# Altium footprint library FlyAndDive.PcbLib: 6 footprints
Each footprint in its own frame and in the unit in brackets; x right, y up, seen from the top. Pads: shape width x height; smd on the part's side, far side on the other; paste and mask are expansions set on the pad; w line width, h text height; cw(c..) or ccw(c..) is an arc to the next point about the centre after c.
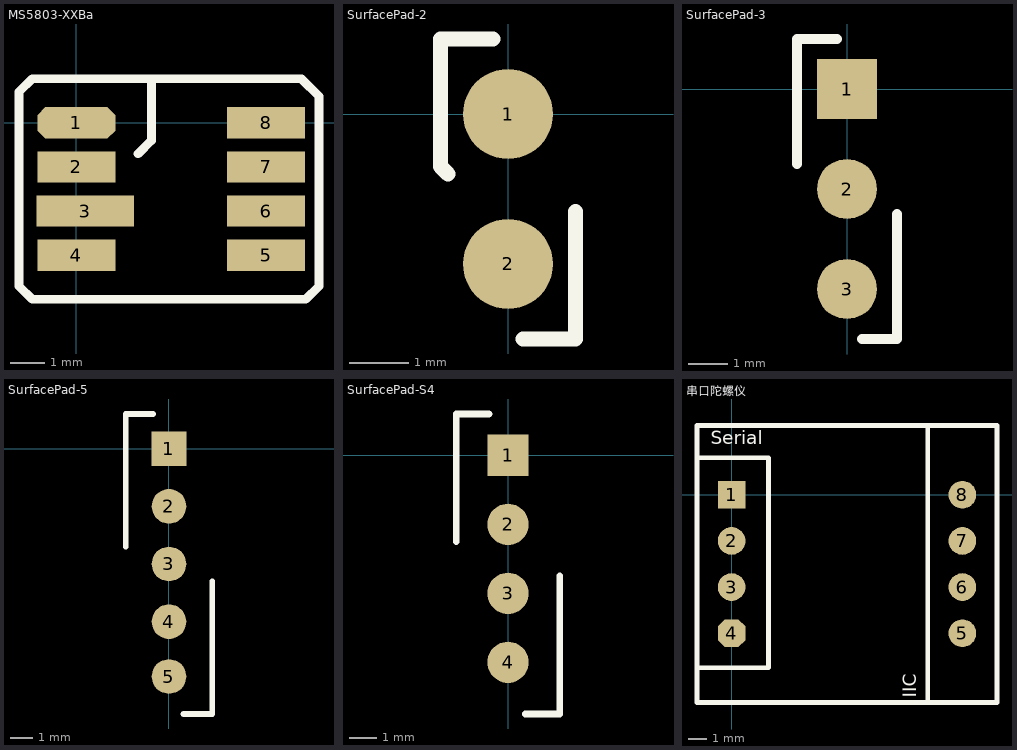
[diagram p0: the footprints below, top view; thin cyan lines are the x and y axes]

## MS5803-XXBa [mm] "Pressure Sensors"
pads (8):
  oct 2.25x0.9 smd: 1(0,0)
  rect 2.25x0.9 smd: 2(0,-1.27) 4(0,-3.81) 5(5.461,-3.81) 6(5.461,-2.54) 7(5.461,-1.27) 8(5.461,0)
  rect 2.8x0.9 smd: 3(0.254,-2.54)
Top Overlay:
  lines w0.254: 1.778,-0.889 2.159,-0.508 2.159,1.143 ; -1.651,-4.699 -1.27,-5.08 6.604,-5.08 6.985,-4.699 6.985,0.762 6.477,1.27 -1.27,1.27 -1.651,0.889 -1.651,0.635 -1.651,-4.699

## SurfacePad-2 [mil]
pads (2):
  round 60 smd: 1(0,0) 2(0,-100)
Top Overlay:
  lines w10: -40,-40 -45,-35 -45,50 -35,50 -10,50 ; 10,-150 35,-150 45,-150 45,-65

## SurfacePad-3 [mil]
pads (3):
  rect 60x60 smd: 1(0,0)
  round 60 smd: 2(0,-100) 3(0,-200)
Top Overlay:
  lines w10: -50,-75 -50,50 -10,50 ; 15,-250 50,-250 50,-125

## SurfacePad-5 [mil]
pads (5):
  rect 60x60 smd: 1(0,0)
  round 60 smd: 2(0,-100) 3(0,-200) 4(0,-300) 5(0,-395)
Top Overlay:
  lines w10: -75,-170 -75,60 -27.5,60 ; 25,-460 75,-460 75,-230

## SurfacePad-S4 [mil]
pads (4):
  rect 60x60 smd: 1(0,0)
  round 60 smd: 2(0,-100) 3(0,-200) 4(0,-300)
Top Overlay:
  lines w10: -75,-125 -75,60 -27.5,60 ; 25,-375 75,-375 75,-175

## 串口陀螺仪 [mil]
pads (8):
  rect 60x60 smd: 1(0,0)
  round 60 smd: 2(0,-100) 3(0,-200) 5(500,-300) 6(500,-200) 7(500,-100) 8(500,0)
  oct 60x60 smd: 4(0,-300)
Top Overlay:
  lines w10: -75,-375 80,-375 80,80 -70,80 ; 425,-450 425,150 ; -75,-450 -75,150 0,150 575,150 575,-450 -75,-450
  text "IIC" at 410,-440 h50
  text "Serial" at -45,100 h50